# Altium schematic symbol library Components - 22.04.20 - 05.06.SchLib: 1 symbol
Pins are listed as number, name and electrical type; pins without a type are passive.

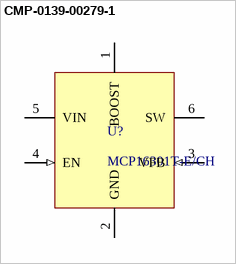
[diagram p0: symbol CMP-0139-00279-1]

## CMP-0139-00279-1
designator U?, comment MCP16301T-E/CH
High-Voltage Input Integrated Switch Step-Down Regulator, 600 mA, Input Voltage 4.0 to 30 V, Output Voltage 2.0 to 15 V, -40 to 125 degC, 6-pin SOT-23 (CH6), Tape and Reel; Manufacturer: Microchip; ComponentLink3Description: Package Specification; PackageDescription: 6-Lead Plastic Small Outline Transistor, 2.9 x 1.55 mm Body, 0.95 mm Pitch; PackageReference: SOT-23-CH6; ComponentLink4Description: Product URL; ComponentLink1URL: http://www.microchip.com; ComponentLink4URL: http://www.microchip.com/MCP16301; ComponentLink2Description: Datasheet; Mounting Technology: Surface Mount; DatasheetVersion: Rev. B; ComponentLink1Description: Manufacturer URL; PartNumber: MCP16301T-E/CH; ComponentLink2URL: http://ww1.microchip.com/downloads/en/DeviceDoc/25004B.pdf; ComponentLink3URL: http://www.microchip.com/stellent/groups/techpub_sg/documents/packagingspec/en012702.pdf; PackageVersion: C04-028B
footprint MCHP-SOT-23-CH6_L (SOT23, 6-Leads, Body 2.9x1.55mm, Pitch 0.95mm, IPC High Density)
footprint MCHP-SOT-23-CH6_N (SOT23, 6-Leads, Body 2.9x1.55mm, Pitch 0.95mm, IPC Medium Density)
footprint MCHP-SOT-23-CH6_M (SOT23, 6-Leads, Body 2.9x1.55mm, Pitch 0.95mm, IPC Low Density)
pins: 1 BOOST (power) "Boost voltage that drives the internal NMOS control switch. A bootstrap capacitor is connected between the BOOST and SW pins.", 2 GND (power) "Ground Pin", 3 VFB (in) "Output voltage feedback pin. Connect VFB to an external resistor divider to set the output voltage.", 4 EN (in) "Enable pin. Logic high enables the operation. Do not allow this pin to float", 5 VIN (power) "Input supply voltage pin for power and internal biasing.", 6 SW (power) "Output switch node, connects to the inductor, freewheeling diode and the bootstrap capacitor."